# Altium footprint library Connector_Samtec_MicroMate.PcbLib: 76 footprints (part 4 of 5)
Each footprint in its own frame and in the unit in brackets; x right, y up, seen from the top. Pads: shape width x height; smd on the part's side, far side on the other; paste and mask are expansions set on the pad; w line width, h text height; cw(c..) or ccw(c..) is an arc to the next point about the centre after c.
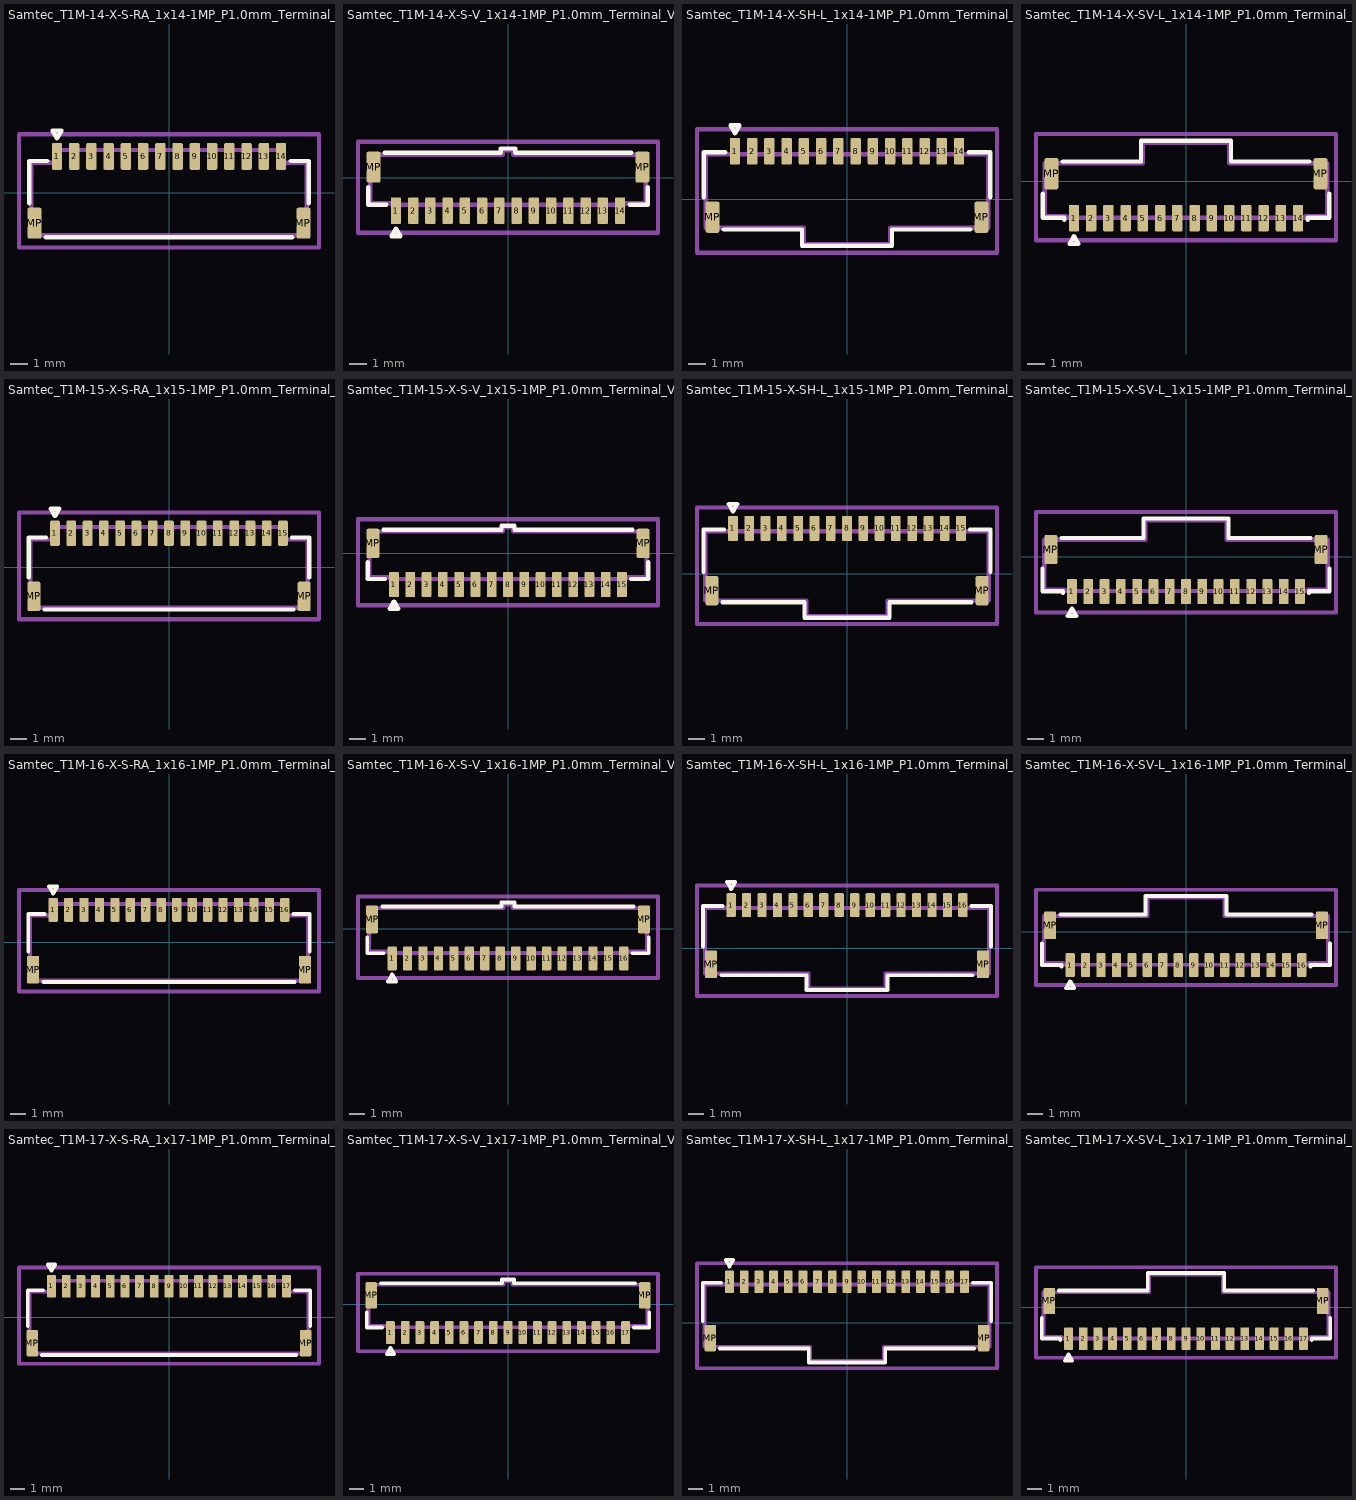
[diagram p3: the footprints below, top view; thin cyan lines are the x and y axes]

## Samtec_T1M-14-X-S-RA_1x14-1MP_P1.0mm_Terminal_Horizontal [mm]
pads (16):
  rrect25% 0.6x1.55 smd: 1(-6.5,2.1) 2(-5.5,2.1) 3(-4.5,2.1) 4(-3.5,2.1) 5(-2.5,2.1) 6(-1.5,2.1) 7(-0.5,2.1) 8(0.5,2.1) 9(1.5,2.1) 10(2.5,2.1) 11(3.5,2.1) 12(4.5,2.1) 13(5.5,2.1) 14(6.5,2.1)
  rrect25% 0.8x1.8 smd: MP(-7.8,-1.775) MP(7.8,-1.775)
F.SilkS:
  lines w0.254: -8.11,-0.615 -8.11,1.835 -7.06,1.835 ; -7.14,-2.585 7.14,-2.585 ; 7.06,1.835 8.11,1.835 8.11,-0.615 ; -6.76,3.6 -6.24,3.6 -6.5,3.15 -6.76,3.6
Top Assembly:
  lines w0.254: -8,-2.475 8,-2.475 8,1.725 6.6,1.725 6.6,2.475 -6.6,2.475 -6.6,1.725 -8,1.725 -8,-2.475
  text "'.Designator'" at -4.047,-0.84 h1
Top Courtyard:
  lines w0.254: -8.7,-3.18 8.7,-3.18 8.7,3.38 -8.7,3.38 -8.7,-3.18
Top Designator:
  text ".Designator" at -7.618,-0.298 h1.52

## Samtec_T1M-14-X-S-V_1x14-1MP_P1.0mm_Terminal_Vertical [mm]
pads (16):
  rrect25% 0.6x1.55 smd: 1(-6.5,-1.925) 2(-5.5,-1.925) 3(-4.5,-1.925) 4(-3.5,-1.925) 5(-2.5,-1.925) 6(-1.5,-1.925) 7(-0.5,-1.925) 8(0.5,-1.925) 9(1.5,-1.925) 10(2.5,-1.925) 11(3.5,-1.925) 12(4.5,-1.925) 13(5.5,-1.925) 14(6.5,-1.925)
  rrect25% 0.8x1.8 smd: MP(-7.8,0.6) MP(7.8,0.6)
F.SilkS:
  lines w0.254: -8.11,-0.56 -8.11,-1.585 -7.06,-1.585 ; -7.14,1.435 -0.41,1.435 -0.41,1.685 0.41,1.685 0.41,1.435 7.14,1.435 ; 7.06,-1.585 8.11,-1.585 8.11,-0.56 ; -6.76,-3.41 -6.24,-3.41 -6.5,-2.96 -6.76,-3.41
Top Assembly:
  lines w0.254: -8,-1.475 -6.75,-1.475 -6.75,-1.575 6.75,-1.575 6.75,-1.475 8,-1.475 8,1.325 0.3,1.325 0.3,1.575 -0.3,1.575 -0.3,1.325 -8,1.325 -8,-1.475
  text "'.Designator'" at -4.047,-0.84 h1
Top Courtyard:
  lines w0.254: -8.7,-3.2 8.7,-3.2 8.7,2.08 -8.7,2.08 -8.7,-3.2
Top Designator:
  text ".Designator" at -7.618,-1.173 h1.52

## Samtec_T1M-14-X-SH-L_1x14-1MP_P1.0mm_Terminal_Horizontal_Latch [mm]
pads (16):
  rrect25% 0.6x1.55 smd: 1(-6.5,2.775) 2(-5.5,2.775) 3(-4.5,2.775) 4(-3.5,2.775) 5(-2.5,2.775) 6(-1.5,2.775) 7(-0.5,2.775) 8(0.5,2.775) 9(1.5,2.775) 10(2.5,2.775) 11(3.5,2.775) 12(4.5,2.775) 13(5.5,2.775) 14(6.5,2.775)
  rrect25% 0.8x1.8 smd: MP(-7.8,-1.05) MP(7.8,-1.05)
F.SilkS:
  lines w0.254: -8.31,0.11 -8.31,2.71 -7.06,2.71 ; -7.14,-1.76 -2.61,-1.76 -2.61,-2.71 2.61,-2.71 2.61,-1.76 7.14,-1.76 ; 7.06,2.71 8.31,2.71 8.31,0.11 ; -6.76,4.275 -6.24,4.275 -6.5,3.825 -6.76,4.275
Top Assembly:
  lines w0.254: -8.2,-1.65 -2.5,-1.65 -2.5,-2.6 2.5,-2.6 2.5,-1.65 8.2,-1.65 8.2,2.6 -8.2,2.6 -8.2,-1.65
  text "'.Designator'" at -4.047,-0.84 h1
Top Courtyard:
  lines w0.254: -8.7,-3.1 8.7,-3.1 8.7,4.05 -8.7,4.05 -8.7,-3.1
Top Designator:
  text ".Designator" at -7.618,0.08 h1.52

## Samtec_T1M-14-X-SV-L_1x14-1MP_P1.0mm_Terminal_Vertical_Latch [mm]
pads (16):
  rrect25% 0.6x1.55 smd: 1(-6.5,-2.15) 2(-5.5,-2.15) 3(-4.5,-2.15) 4(-3.5,-2.15) 5(-2.5,-2.15) 6(-1.5,-2.15) 7(-0.5,-2.15) 8(0.5,-2.15) 9(1.5,-2.15) 10(2.5,-2.15) 11(3.5,-2.15) 12(4.5,-2.15) 13(5.5,-2.15) 14(6.5,-2.15)
  rrect25% 0.8x1.8 smd: MP(-7.8,0.425) MP(7.8,0.425)
F.SilkS:
  lines w0.254: -8.31,-0.735 -8.31,-2.135 -7.06,-2.135 -7.06,-2.235 ; -7.14,1.135 -2.61,1.135 -2.61,2.335 2.61,2.335 2.61,1.135 7.14,1.135 ; 7.06,-2.235 7.06,-2.135 8.31,-2.135 8.31,-0.735 ; -6.76,-3.65 -6.24,-3.65 -6.5,-3.2 -6.76,-3.65
Top Assembly:
  lines w0.254: -8.2,-2.025 -6.95,-2.025 -6.95,-2.125 6.95,-2.125 6.95,-2.025 8.2,-2.025 8.2,1.025 2.5,1.025 2.5,2.225 -2.5,2.225 -2.5,1.025 -8.2,1.025 -8.2,-2.025
  text "'.Designator'" at -4.047,-0.84 h1
Top Courtyard:
  lines w0.254: -8.7,-3.43 8.7,-3.43 8.7,2.73 -8.7,2.73 -8.7,-3.43
Top Designator:
  text ".Designator" at -7.618,-0.968 h1.52

## Samtec_T1M-15-X-S-RA_1x15-1MP_P1.0mm_Terminal_Horizontal [mm]
pads (17):
  rrect25% 0.6x1.55 smd: 1(-7,2.1) 2(-6,2.1) 3(-5,2.1) 4(-4,2.1) 5(-3,2.1) 6(-2,2.1) 7(-1,2.1) 8(0,2.1) 9(1,2.1) 10(2,2.1) 11(3,2.1) 12(4,2.1) 13(5,2.1) 14(6,2.1) 15(7,2.1)
  rrect25% 0.8x1.8 smd: MP(-8.3,-1.775) MP(8.3,-1.775)
F.SilkS:
  lines w0.254: -8.61,-0.615 -8.61,1.835 -7.56,1.835 ; -7.64,-2.585 7.64,-2.585 ; 7.56,1.835 8.61,1.835 8.61,-0.615 ; -7.26,3.6 -6.74,3.6 -7,3.15 -7.26,3.6
Top Assembly:
  lines w0.254: -8.5,-2.475 8.5,-2.475 8.5,1.725 7.1,1.725 7.1,2.475 -7.1,2.475 -7.1,1.725 -8.5,1.725 -8.5,-2.475
  text "'.Designator'" at -4.047,-0.84 h1
Top Courtyard:
  lines w0.254: -9.21,-3.18 9.21,-3.18 9.21,3.38 -9.21,3.38 -9.21,-3.18
Top Designator:
  text ".Designator" at -7.618,-0.298 h1.52

## Samtec_T1M-15-X-S-V_1x15-1MP_P1.0mm_Terminal_Vertical [mm]
pads (17):
  rrect25% 0.6x1.55 smd: 1(-7,-1.925) 2(-6,-1.925) 3(-5,-1.925) 4(-4,-1.925) 5(-3,-1.925) 6(-2,-1.925) 7(-1,-1.925) 8(0,-1.925) 9(1,-1.925) 10(2,-1.925) 11(3,-1.925) 12(4,-1.925) 13(5,-1.925) 14(6,-1.925) 15(7,-1.925)
  rrect25% 0.8x1.8 smd: MP(-8.3,0.6) MP(8.3,0.6)
F.SilkS:
  lines w0.254: -8.61,-0.56 -8.61,-1.585 -7.56,-1.585 ; -7.64,1.435 -0.41,1.435 -0.41,1.685 0.41,1.685 0.41,1.435 7.64,1.435 ; 7.56,-1.585 8.61,-1.585 8.61,-0.56 ; -7.26,-3.41 -6.74,-3.41 -7,-2.96 -7.26,-3.41
Top Assembly:
  lines w0.254: -8.5,-1.475 -7.25,-1.475 -7.25,-1.575 7.25,-1.575 7.25,-1.475 8.5,-1.475 8.5,1.325 0.3,1.325 0.3,1.575 -0.3,1.575 -0.3,1.325 -8.5,1.325 -8.5,-1.475
  text "'.Designator'" at -4.047,-0.84 h1
Top Courtyard:
  lines w0.254: -9.21,-3.2 9.21,-3.2 9.21,2.08 -9.21,2.08 -9.21,-3.2
Top Designator:
  text ".Designator" at -7.618,-1.173 h1.52

## Samtec_T1M-15-X-SH-L_1x15-1MP_P1.0mm_Terminal_Horizontal_Latch [mm]
pads (17):
  rrect25% 0.6x1.55 smd: 1(-7,2.775) 2(-6,2.775) 3(-5,2.775) 4(-4,2.775) 5(-3,2.775) 6(-2,2.775) 7(-1,2.775) 8(0,2.775) 9(1,2.775) 10(2,2.775) 11(3,2.775) 12(4,2.775) 13(5,2.775) 14(6,2.775) 15(7,2.775)
  rrect25% 0.8x1.8 smd: MP(-8.3,-1.05) MP(8.3,-1.05)
F.SilkS:
  lines w0.254: -8.81,0.11 -8.81,2.71 -7.56,2.71 ; -7.64,-1.76 -2.61,-1.76 -2.61,-2.71 2.61,-2.71 2.61,-1.76 7.64,-1.76 ; 7.56,2.71 8.81,2.71 8.81,0.11 ; -7.26,4.275 -6.74,4.275 -7,3.825 -7.26,4.275
Top Assembly:
  lines w0.254: -8.7,-1.65 -2.5,-1.65 -2.5,-2.6 2.5,-2.6 2.5,-1.65 8.7,-1.65 8.7,2.6 -8.7,2.6 -8.7,-1.65
  text "'.Designator'" at -4.047,-0.84 h1
Top Courtyard:
  lines w0.254: -9.21,-3.1 9.21,-3.1 9.21,4.05 -9.21,4.05 -9.21,-3.1
Top Designator:
  text ".Designator" at -7.618,0.08 h1.52

## Samtec_T1M-15-X-SV-L_1x15-1MP_P1.0mm_Terminal_Vertical_Latch [mm]
pads (17):
  rrect25% 0.6x1.55 smd: 1(-7,-2.15) 2(-6,-2.15) 3(-5,-2.15) 4(-4,-2.15) 5(-3,-2.15) 6(-2,-2.15) 7(-1,-2.15) 8(0,-2.15) 9(1,-2.15) 10(2,-2.15) 11(3,-2.15) 12(4,-2.15) 13(5,-2.15) 14(6,-2.15) 15(7,-2.15)
  rrect25% 0.8x1.8 smd: MP(-8.3,0.425) MP(8.3,0.425)
F.SilkS:
  lines w0.254: -8.81,-0.735 -8.81,-2.135 -7.56,-2.135 -7.56,-2.235 ; -7.64,1.135 -2.61,1.135 -2.61,2.335 2.61,2.335 2.61,1.135 7.64,1.135 ; 7.56,-2.235 7.56,-2.135 8.81,-2.135 8.81,-0.735 ; -7.26,-3.65 -6.74,-3.65 -7,-3.2 -7.26,-3.65
Top Assembly:
  lines w0.254: -8.7,-2.025 -7.45,-2.025 -7.45,-2.125 7.45,-2.125 7.45,-2.025 8.7,-2.025 8.7,1.025 2.5,1.025 2.5,2.225 -2.5,2.225 -2.5,1.025 -8.7,1.025 -8.7,-2.025
  text "'.Designator'" at -4.047,-0.84 h1
Top Courtyard:
  lines w0.254: -9.21,-3.43 9.21,-3.43 9.21,2.73 -9.21,2.73 -9.21,-3.43
Top Designator:
  text ".Designator" at -7.618,-0.968 h1.52

## Samtec_T1M-16-X-S-RA_1x16-1MP_P1.0mm_Terminal_Horizontal [mm]
pads (18):
  rrect25% 0.6x1.55 smd: 1(-7.5,2.1) 2(-6.5,2.1) 3(-5.5,2.1) 4(-4.5,2.1) 5(-3.5,2.1) 6(-2.5,2.1) 7(-1.5,2.1) 8(-0.5,2.1) 9(0.5,2.1) 10(1.5,2.1) 11(2.5,2.1) 12(3.5,2.1) 13(4.5,2.1) 14(5.5,2.1) 15(6.5,2.1) 16(7.5,2.1)
  rrect25% 0.8x1.8 smd: MP(-8.8,-1.775) MP(8.8,-1.775)
F.SilkS:
  lines w0.254: -9.11,-0.615 -9.11,1.835 -8.06,1.835 ; -8.14,-2.585 8.14,-2.585 ; 8.06,1.835 9.11,1.835 9.11,-0.615 ; -7.76,3.6 -7.24,3.6 -7.5,3.15 -7.76,3.6
Top Assembly:
  lines w0.254: -9,-2.475 9,-2.475 9,1.725 7.6,1.725 7.6,2.475 -7.6,2.475 -7.6,1.725 -9,1.725 -9,-2.475
  text "'.Designator'" at -4.047,-0.84 h1
Top Courtyard:
  lines w0.254: -9.71,-3.18 9.71,-3.18 9.71,3.38 -9.71,3.38 -9.71,-3.18
Top Designator:
  text ".Designator" at -7.618,-0.298 h1.52

## Samtec_T1M-16-X-S-V_1x16-1MP_P1.0mm_Terminal_Vertical [mm]
pads (18):
  rrect25% 0.6x1.55 smd: 1(-7.5,-1.925) 2(-6.5,-1.925) 3(-5.5,-1.925) 4(-4.5,-1.925) 5(-3.5,-1.925) 6(-2.5,-1.925) 7(-1.5,-1.925) 8(-0.5,-1.925) 9(0.5,-1.925) 10(1.5,-1.925) 11(2.5,-1.925) 12(3.5,-1.925) 13(4.5,-1.925) 14(5.5,-1.925) 15(6.5,-1.925) 16(7.5,-1.925)
  rrect25% 0.8x1.8 smd: MP(-8.8,0.6) MP(8.8,0.6)
F.SilkS:
  lines w0.254: -9.11,-0.56 -9.11,-1.585 -8.06,-1.585 ; -8.14,1.435 -0.41,1.435 -0.41,1.685 0.41,1.685 0.41,1.435 8.14,1.435 ; 8.06,-1.585 9.11,-1.585 9.11,-0.56 ; -7.76,-3.41 -7.24,-3.41 -7.5,-2.96 -7.76,-3.41
Top Assembly:
  lines w0.254: -9,-1.475 -7.75,-1.475 -7.75,-1.575 7.75,-1.575 7.75,-1.475 9,-1.475 9,1.325 0.3,1.325 0.3,1.575 -0.3,1.575 -0.3,1.325 -9,1.325 -9,-1.475
  text "'.Designator'" at -4.047,-0.84 h1
Top Courtyard:
  lines w0.254: -9.71,-3.2 9.71,-3.2 9.71,2.08 -9.71,2.08 -9.71,-3.2
Top Designator:
  text ".Designator" at -7.618,-1.173 h1.52

## Samtec_T1M-16-X-SH-L_1x16-1MP_P1.0mm_Terminal_Horizontal_Latch [mm]
pads (18):
  rrect25% 0.6x1.55 smd: 1(-7.5,2.775) 2(-6.5,2.775) 3(-5.5,2.775) 4(-4.5,2.775) 5(-3.5,2.775) 6(-2.5,2.775) 7(-1.5,2.775) 8(-0.5,2.775) 9(0.5,2.775) 10(1.5,2.775) 11(2.5,2.775) 12(3.5,2.775) 13(4.5,2.775) 14(5.5,2.775) 15(6.5,2.775) 16(7.5,2.775)
  rrect25% 0.8x1.8 smd: MP(-8.8,-1.05) MP(8.8,-1.05)
F.SilkS:
  lines w0.254: -9.31,0.11 -9.31,2.71 -8.06,2.71 ; -8.14,-1.76 -2.61,-1.76 -2.61,-2.71 2.61,-2.71 2.61,-1.76 8.14,-1.76 ; 8.06,2.71 9.31,2.71 9.31,0.11 ; -7.76,4.275 -7.24,4.275 -7.5,3.825 -7.76,4.275
Top Assembly:
  lines w0.254: -9.2,-1.65 -2.5,-1.65 -2.5,-2.6 2.5,-2.6 2.5,-1.65 9.2,-1.65 9.2,2.6 -9.2,2.6 -9.2,-1.65
  text "'.Designator'" at -4.047,-0.84 h1
Top Courtyard:
  lines w0.254: -9.71,-3.1 9.71,-3.1 9.71,4.05 -9.71,4.05 -9.71,-3.1
Top Designator:
  text ".Designator" at -7.618,0.08 h1.52

## Samtec_T1M-16-X-SV-L_1x16-1MP_P1.0mm_Terminal_Vertical_Latch [mm]
pads (18):
  rrect25% 0.6x1.55 smd: 1(-7.5,-2.15) 2(-6.5,-2.15) 3(-5.5,-2.15) 4(-4.5,-2.15) 5(-3.5,-2.15) 6(-2.5,-2.15) 7(-1.5,-2.15) 8(-0.5,-2.15) 9(0.5,-2.15) 10(1.5,-2.15) 11(2.5,-2.15) 12(3.5,-2.15) 13(4.5,-2.15) 14(5.5,-2.15) 15(6.5,-2.15) 16(7.5,-2.15)
  rrect25% 0.8x1.8 smd: MP(-8.8,0.425) MP(8.8,0.425)
F.SilkS:
  lines w0.254: -9.31,-0.735 -9.31,-2.135 -8.06,-2.135 -8.06,-2.235 ; -8.14,1.135 -2.61,1.135 -2.61,2.335 2.61,2.335 2.61,1.135 8.14,1.135 ; 8.06,-2.235 8.06,-2.135 9.31,-2.135 9.31,-0.735 ; -7.76,-3.65 -7.24,-3.65 -7.5,-3.2 -7.76,-3.65
Top Assembly:
  lines w0.254: -9.2,-2.025 -7.95,-2.025 -7.95,-2.125 7.95,-2.125 7.95,-2.025 9.2,-2.025 9.2,1.025 2.5,1.025 2.5,2.225 -2.5,2.225 -2.5,1.025 -9.2,1.025 -9.2,-2.025
  text "'.Designator'" at -4.047,-0.84 h1
Top Courtyard:
  lines w0.254: -9.71,-3.43 9.71,-3.43 9.71,2.73 -9.71,2.73 -9.71,-3.43
Top Designator:
  text ".Designator" at -7.618,-0.968 h1.52

## Samtec_T1M-17-X-S-RA_1x17-1MP_P1.0mm_Terminal_Horizontal [mm]
pads (19):
  rrect25% 0.6x1.55 smd: 1(-8,2.1) 2(-7,2.1) 3(-6,2.1) 4(-5,2.1) 5(-4,2.1) 6(-3,2.1) 7(-2,2.1) 8(-1,2.1) 9(0,2.1) 10(1,2.1) 11(2,2.1) 12(3,2.1) 13(4,2.1) 14(5,2.1) 15(6,2.1) 16(7,2.1) 17(8,2.1)
  rrect25% 0.8x1.8 smd: MP(-9.3,-1.775) MP(9.3,-1.775)
F.SilkS:
  lines w0.254: -9.61,-0.615 -9.61,1.835 -8.56,1.835 ; -8.64,-2.585 8.64,-2.585 ; 8.56,1.835 9.61,1.835 9.61,-0.615 ; -8.26,3.6 -7.74,3.6 -8,3.15 -8.26,3.6
Top Assembly:
  lines w0.254: -9.5,-2.475 9.5,-2.475 9.5,1.725 8.1,1.725 8.1,2.475 -8.1,2.475 -8.1,1.725 -9.5,1.725 -9.5,-2.475
  text "'.Designator'" at -4.047,-0.84 h1
Top Courtyard:
  lines w0.254: -10.21,-3.18 10.21,-3.18 10.21,3.38 -10.21,3.38 -10.21,-3.18
Top Designator:
  text ".Designator" at -7.618,-0.298 h1.52

## Samtec_T1M-17-X-S-V_1x17-1MP_P1.0mm_Terminal_Vertical [mm]
pads (19):
  rrect25% 0.6x1.55 smd: 1(-8,-1.925) 2(-7,-1.925) 3(-6,-1.925) 4(-5,-1.925) 5(-4,-1.925) 6(-3,-1.925) 7(-2,-1.925) 8(-1,-1.925) 9(0,-1.925) 10(1,-1.925) 11(2,-1.925) 12(3,-1.925) 13(4,-1.925) 14(5,-1.925) 15(6,-1.925) 16(7,-1.925) 17(8,-1.925)
  rrect25% 0.8x1.8 smd: MP(-9.3,0.6) MP(9.3,0.6)
F.SilkS:
  lines w0.254: -9.61,-0.56 -9.61,-1.585 -8.56,-1.585 ; -8.64,1.435 -0.41,1.435 -0.41,1.685 0.41,1.685 0.41,1.435 8.64,1.435 ; 8.56,-1.585 9.61,-1.585 9.61,-0.56 ; -8.26,-3.41 -7.74,-3.41 -8,-2.96 -8.26,-3.41
Top Assembly:
  lines w0.254: -9.5,-1.475 -8.25,-1.475 -8.25,-1.575 8.25,-1.575 8.25,-1.475 9.5,-1.475 9.5,1.325 0.3,1.325 0.3,1.575 -0.3,1.575 -0.3,1.325 -9.5,1.325 -9.5,-1.475
  text "'.Designator'" at -4.047,-0.84 h1
Top Courtyard:
  lines w0.254: -10.21,-3.2 10.21,-3.2 10.21,2.08 -10.21,2.08 -10.21,-3.2
Top Designator:
  text ".Designator" at -7.618,-1.173 h1.52

## Samtec_T1M-17-X-SH-L_1x17-1MP_P1.0mm_Terminal_Horizontal_Latch [mm]
pads (19):
  rrect25% 0.6x1.55 smd: 1(-8,2.775) 2(-7,2.775) 3(-6,2.775) 4(-5,2.775) 5(-4,2.775) 6(-3,2.775) 7(-2,2.775) 8(-1,2.775) 9(0,2.775) 10(1,2.775) 11(2,2.775) 12(3,2.775) 13(4,2.775) 14(5,2.775) 15(6,2.775) 16(7,2.775) 17(8,2.775)
  rrect25% 0.8x1.8 smd: MP(-9.3,-1.05) MP(9.3,-1.05)
F.SilkS:
  lines w0.254: -9.81,0.11 -9.81,2.71 -8.56,2.71 ; -8.64,-1.76 -2.61,-1.76 -2.61,-2.71 2.61,-2.71 2.61,-1.76 8.64,-1.76 ; 8.56,2.71 9.81,2.71 9.81,0.11 ; -8.26,4.275 -7.74,4.275 -8,3.825 -8.26,4.275
Top Assembly:
  lines w0.254: -9.7,-1.65 -2.5,-1.65 -2.5,-2.6 2.5,-2.6 2.5,-1.65 9.7,-1.65 9.7,2.6 -9.7,2.6 -9.7,-1.65
  text "'.Designator'" at -4.047,-0.84 h1
Top Courtyard:
  lines w0.254: -10.21,-3.1 10.21,-3.1 10.21,4.05 -10.21,4.05 -10.21,-3.1
Top Designator:
  text ".Designator" at -7.618,0.08 h1.52

## Samtec_T1M-17-X-SV-L_1x17-1MP_P1.0mm_Terminal_Vertical_Latch [mm]
pads (19):
  rrect25% 0.6x1.55 smd: 1(-8,-2.15) 2(-7,-2.15) 3(-6,-2.15) 4(-5,-2.15) 5(-4,-2.15) 6(-3,-2.15) 7(-2,-2.15) 8(-1,-2.15) 9(0,-2.15) 10(1,-2.15) 11(2,-2.15) 12(3,-2.15) 13(4,-2.15) 14(5,-2.15) 15(6,-2.15) 16(7,-2.15) 17(8,-2.15)
  rrect25% 0.8x1.8 smd: MP(-9.3,0.425) MP(9.3,0.425)
F.SilkS:
  lines w0.254: -9.81,-0.735 -9.81,-2.135 -8.56,-2.135 -8.56,-2.235 ; -8.64,1.135 -2.61,1.135 -2.61,2.335 2.61,2.335 2.61,1.135 8.64,1.135 ; 8.56,-2.235 8.56,-2.135 9.81,-2.135 9.81,-0.735 ; -8.26,-3.65 -7.74,-3.65 -8,-3.2 -8.26,-3.65
Top Assembly:
  lines w0.254: -9.7,-2.025 -8.45,-2.025 -8.45,-2.125 8.45,-2.125 8.45,-2.025 9.7,-2.025 9.7,1.025 2.5,1.025 2.5,2.225 -2.5,2.225 -2.5,1.025 -9.7,1.025 -9.7,-2.025
  text "'.Designator'" at -4.047,-0.84 h1
Top Courtyard:
  lines w0.254: -10.21,-3.43 10.21,-3.43 10.21,2.73 -10.21,2.73 -10.21,-3.43
Top Designator:
  text ".Designator" at -7.618,-0.968 h1.52